# EAGLE library part MCP4011 (library ds_ic_peripherals)
64-Step Volatile Digital POT
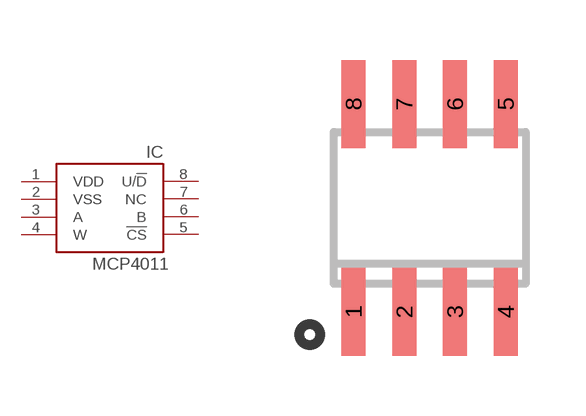
[diagram p11: symbol with the pads of SO8; footprint SO8]

Designator prefix IC

## MCP4011SO8  [SO8]
1  VDD
2  VSS
3  A
4  W
5  !CS
6  B
7  NC
8  U/!D

## Footprint SO8 (pad centres in mm)
SMALL OUTLINE INTEGRATED CIRCUIT
smd 0.6 x 2.2: 1 -1.905,-2.6; 2 -0.635,-2.6; 3 0.635,-2.6; 4 1.905,-2.6; 5 1.905,2.6; 6 0.635,2.6; 7 -0.635,2.6; 8 -1.905,2.6